# Altium integrated library CAN_IC.IntLib: 5 symbols
Pins are listed as number, name and electrical type; pins without a type are passive.

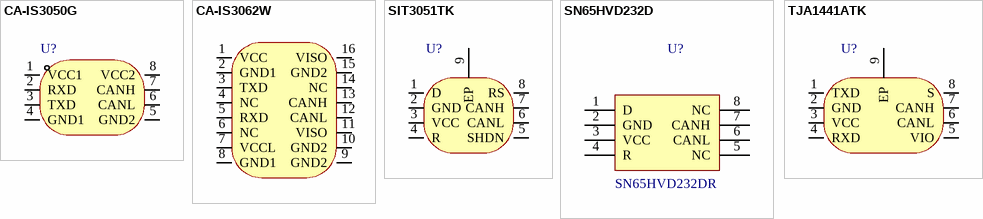
[diagram p0: symbols CA-IS3050G to TJA1441ATK]

## CA-IS3050G
designator U?  (value not drawn)
隔离CAN; Manufacturer: Chipanalog(川土微); Add into BOM: yes; Name: CA-IS3050G; Symbol: CA-IS3050G; Device: CA-IS3050G; LCSC Part Name: 隔离式CAN收发器; Supplier Part: C528763; Manufacturer Part: CA-IS3050G; Supplier Footprint: SOIC-8-WB; JLCPCB Part Class: 扩展库; Datasheet: https://atta.szlcsc.com/upload/public/pdf/source/20200518/C528763_832C24D7251BBF606D004A15D43AD482.pdf; Supplier: LCSC; Convert to PCB: yes; Type: -
footprint SOIC-8_L7.5-W5.9-P1.27-LS11.5-BL
pins: 1 VCC1, 2 RXD, 3 TXD, 4 GND1, 5 GND2, 6 CANL, 7 CANH, 8 VCC2

## CA-IS3062W
designator U??  (value not drawn)
Manufacturer: Chipanalog(川土微); Add into BOM: yes; Name: CA-IS3062W; Symbol: CA-IS3062W; Device: CA-IS3062W; LCSC Part Name: 集成电源的隔离式CAN收发器; Supplier Part: C2890050; Manufacturer Part: CA-IS3062W; Supplier Footprint: SOIC-16-WB; JLCPCB Part Class: Extended Part; Datasheet: https://atta.szlcsc.com/upload/public/pdf/source/20220506/1B37B7024FA65B6EFA4260730BFA4228.pdf; Supplier: LCSC; Convert to PCB: yes
footprint SOIC-16_L10.3-W7.5-P1.27-LS10.3-BL
pins: 1 VCC, 2 GND1, 3 TXD, 4 NC, 5 RXD, 6 NC, 7 VCCL, 8 GND1, 9 GND2, 10 GND2, 11 VISO, 12 CANL, 13 CANH, 14 NC, 15 GND2, 16 VISO

## SIT3051TK
designator U?  (value not drawn)
类型:-;协议类别:-;驱动器/接收器数:-;数据速率:-;; Manufacturer: SIT(芯力特); Add into BOM: yes; Name: SIT3051TK; Symbol: SIT3051TK; Device: SIT3051TK; LCSC Part Name: CAN收发器芯片; Supplier Part: C601078; Manufacturer Part: SIT3051TK; Supplier Footprint: DFN3*3-8; JLCPCB Part Class: 扩展库; Datasheet: https://atta.szlcsc.com/upload/public/pdf/source/20200610/C601078_B1F4AB5D187DBA98E917965AB02FEC6C.pdf; Supplier: LCSC; Convert to PCB: yes; Type: -; Protocol: -; Number of Drivers/Receivers: -; Data Rate: -; Supply Voltage: -
footprint DFN-8_L3.0-W3.0-P0.65-BL-EP
pins: 1 D, 2 GND, 3 VCC, 4 R, 5 SHDN, 6 CANL, 7 CANH, 8 RS, 9 EP

## SN65HVD232D
designator U?  Manufacturer Part Number: SN65HVD232DR  (hidden comment: SN65HVD232D)
SN65HVD232D_CAN_IC; Manufacturer: Texas Instruments; Protocol: CAN; Number of Drivers/Receivers: 1/1; Duplex: Half; Data Rate: 1Mbps; Voltage - Supply: 3 V ~ 3.6 V; Supplier 1: Digi-Key; Supplier Part Number 1: 296-26344-2-ND; RoHS: RoHS Compliant; Category: Integrated Circuits (ICs); Stock: 5000; Pricing 1: 2500=0.84375 (USD); Packaging: Tape & Reel (TR); Part Status: Active; Type: Transceiver; Operating Temperature: -40°C ~ 85°C; Mounting Type: Surface Mount; Package / Case: 8-SOIC (0.154", 3.90mm Width); Supplier Device Package: 8-SOIC; ComponentLink1URL: http://www.ti.com/lit/ds/symlink/sn65hvd230.pdf; ComponentLink1Description: http://www.ti.com/lit/ds/symlink/sn65hvd230.pdf; Supplier 2: Digi-Key; Supplier Part Number 2: 296-26344-1-ND; Pricing 2: 1=2.05, 10=1.842, 100=1.4809, 500=1.21668, 1000=1.00811 (USD)
footprint SO_8 (SOP_8)
pins: 1 D, 2 GND, 3 VCC, 4 R, 5 NC, 6 CANL, 7 CANH, 8 NC

## TJA1441ATK
designator U?  (value not drawn)
Manufacturer: SIT(芯力特); Name: SIT3051TK; Add into BOM: yes; Symbol: SIT3051TK; Device: SIT3051TK; LCSC Part Name: CAN收发器芯片; Supplier Part: C601078; Manufacturer Part: SIT3051TK; Supplier Footprint: DFN3*3-8; JLCPCB Part Class: 扩展库; Datasheet: https://atta.szlcsc.com/upload/public/pdf/source/20200610/C601078_B1F4AB5D187DBA98E917965AB02FEC6C.pdf; Supplier: LCSC; Convert to PCB: yes; Type: -; Protocol: -; Number of Drivers/Receivers: -; Data Rate: -; Supply Voltage: -
footprint HVSON-8_L3.0-W3.0-P0.65-BL-EP
pins: 1 TXD, 2 GND, 3 VCC, 4 RXD, 5 VIO, 6 CANL, 7 CANH, 8 S, 9 EP